# EAGLE library part 64902021122 (library Wuerth_Elektronik_eiCan_07_Mini_Power_Connectors)
WR-MPC4 4.20mm Male Dual Row Vertical Header, 20 Pins
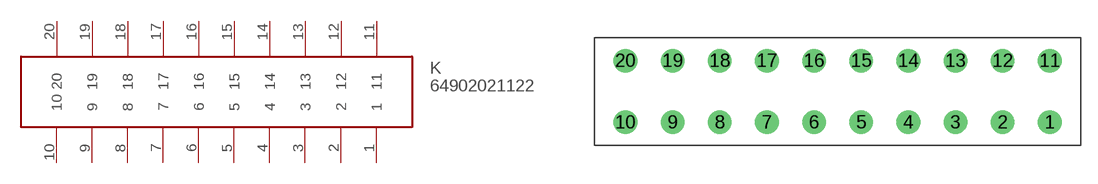
[diagram p37: symbol with the pads of 64902021122; footprint 64902021122]

Designator prefix K

## 64902021122  [64902021122]
1  1
2  2
3  3
4  4
5  5
6  6
7  7
8  8
9  9
10  10
11  11
12  12
13  13
14  14
15  15
16  16
17  17
18  18
19  19
20  20

## Footprint 64902021122 (pad centres in mm)
WR-MPC4 4.20mm Male Dual Row Vertical Header, 20 Pins
drill 1.4 round: 1 0,-2.75; 2 -4.2,-2.75; 3 -8.4,-2.75; 4 -12.6,-2.75; 5 -16.8,-2.75; 6 -21,-2.75; 7 -25.2,-2.75; 8 -29.4,-2.75; 9 -33.6,-2.75; 10 -37.8,-2.75; 11 0,2.75; 12 -4.2,2.75; 13 -8.4,2.75; 14 -12.6,2.75; 15 -16.8,2.75; 16 -21,2.75; 17 -25.2,2.75; 18 -29.4,2.75; 19 -33.6,2.75; 20 -37.8,2.75